# Altium footprint library EEEFK1V221P (9695877).PcbLib: 1 footprints
Each footprint in its own frame and in the unit in brackets; x right, y up, seen from the top. Pads: shape width x height; smd on the part's side, far side on the other; paste and mask are expansions set on the pad; w line width, h text height; cw(c..) or ccw(c..) is an arc to the next point about the centre after c.
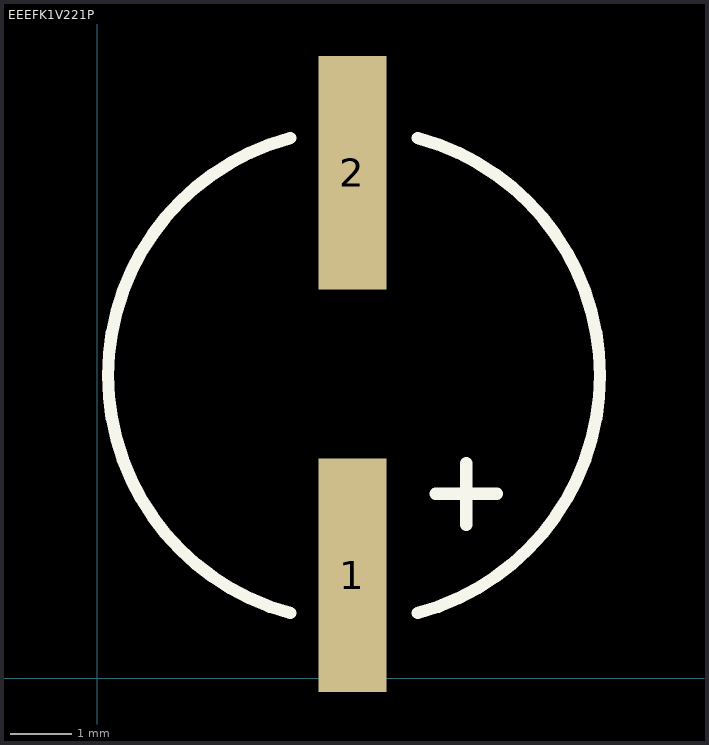
[diagram p0: the footprint, top view; thin cyan lines are the x and y axes]

## EEEFK1V221P [mm] "PANASONIC - EEEFK1V221P - CAPACITOR, CASE F, 220UF, 35V"
height 8.3
pads (2):
  rect 1.1x3.8 smd: 1(4.15,1.675) 2(4.15,8.225)
Top Overlay:
  lines w0.2: 3.14,1.061 cw(c4.175,4.925) 3.14,8.789 ; 5.21,1.061 ccw(c4.175,4.925) 5.21,8.789 ; 5.5,3 6.5,3 ; 6,2.5 6,3.5
3D body: height 10.5, standoff 0, extent 0,0 8.3,9.9